# EAGLE library part 162B (library lcd)
Display a cristalli liquidi tipo 162B Displaytech http://www.displaytech.com.hk/index.htm
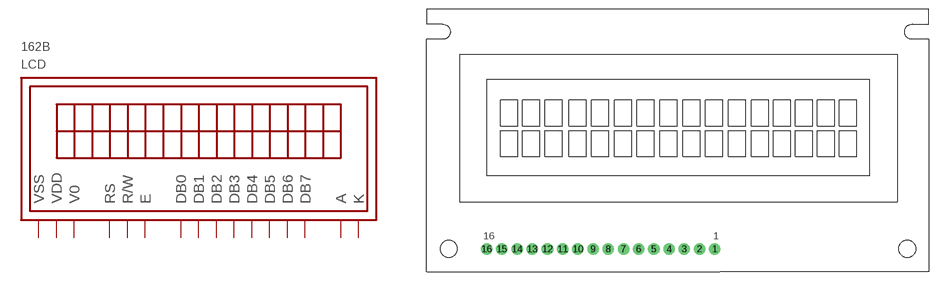
[diagram p0: symbol with the pads of LCD_1; footprint LCD_1]

Designator prefix LCD

## 162B  [LCD_1]
1  A
2  K
3  VSS
4  VDD
5  V0
6  RS
7  R/W
8  E
9  DB0
10  DB1
11  DB2
12  DB3
13  DB4
14  DB5
15  DB6
16  DB7

## Footprint LCD_1 (pad centres in mm)
Display a cristalli liquidi tipo 162B Displaytech Dimensioni 84x44mm
drill 1 pad 1.93: 1 0,0; 2 -2.54,0; 3 -5.08,0; 4 -7.62,0; 5 -10.16,0; 6 -12.7,0; 7 -15.24,0; 8 -17.78,0; 9 -20.32,0; 10 -22.86,0; 11 -25.4,0; 12 -27.94,0; 13 -30.48,0; 14 -33.02,0; 15 -35.56,0; 16 -38.1,0
hole 2.8 at -44.418,0
hole 2.8 at 32.163,0